# EAGLE library part DK31U (library inductors-2)
FILTER
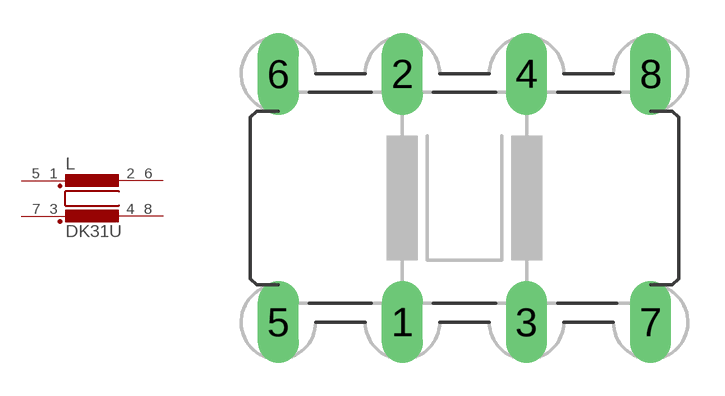
[diagram p0: symbol with the pads of DK31; footprint DK31]

Designator prefix L

## DK31U  [DK31]
1  1  pas
2  2  pas
3  3  pas
4  4  pas
5  5  pas
6  6  pas
7  7  pas
8  8  pas

## Footprint DK31 (pad centres in mm)
FILTER manufacturer Vogt
drill 1.118 long: 1 -2.54,-5.08; 2 -2.54,5.08; 3 2.54,-5.08; 4 2.54,5.08; 5 -7.62,-5.08; 6 -7.62,5.08; 7 7.62,-5.08; 8 7.62,5.08